# EAGLE library part ATSAM3U2E (library LITTLEBITS140915)
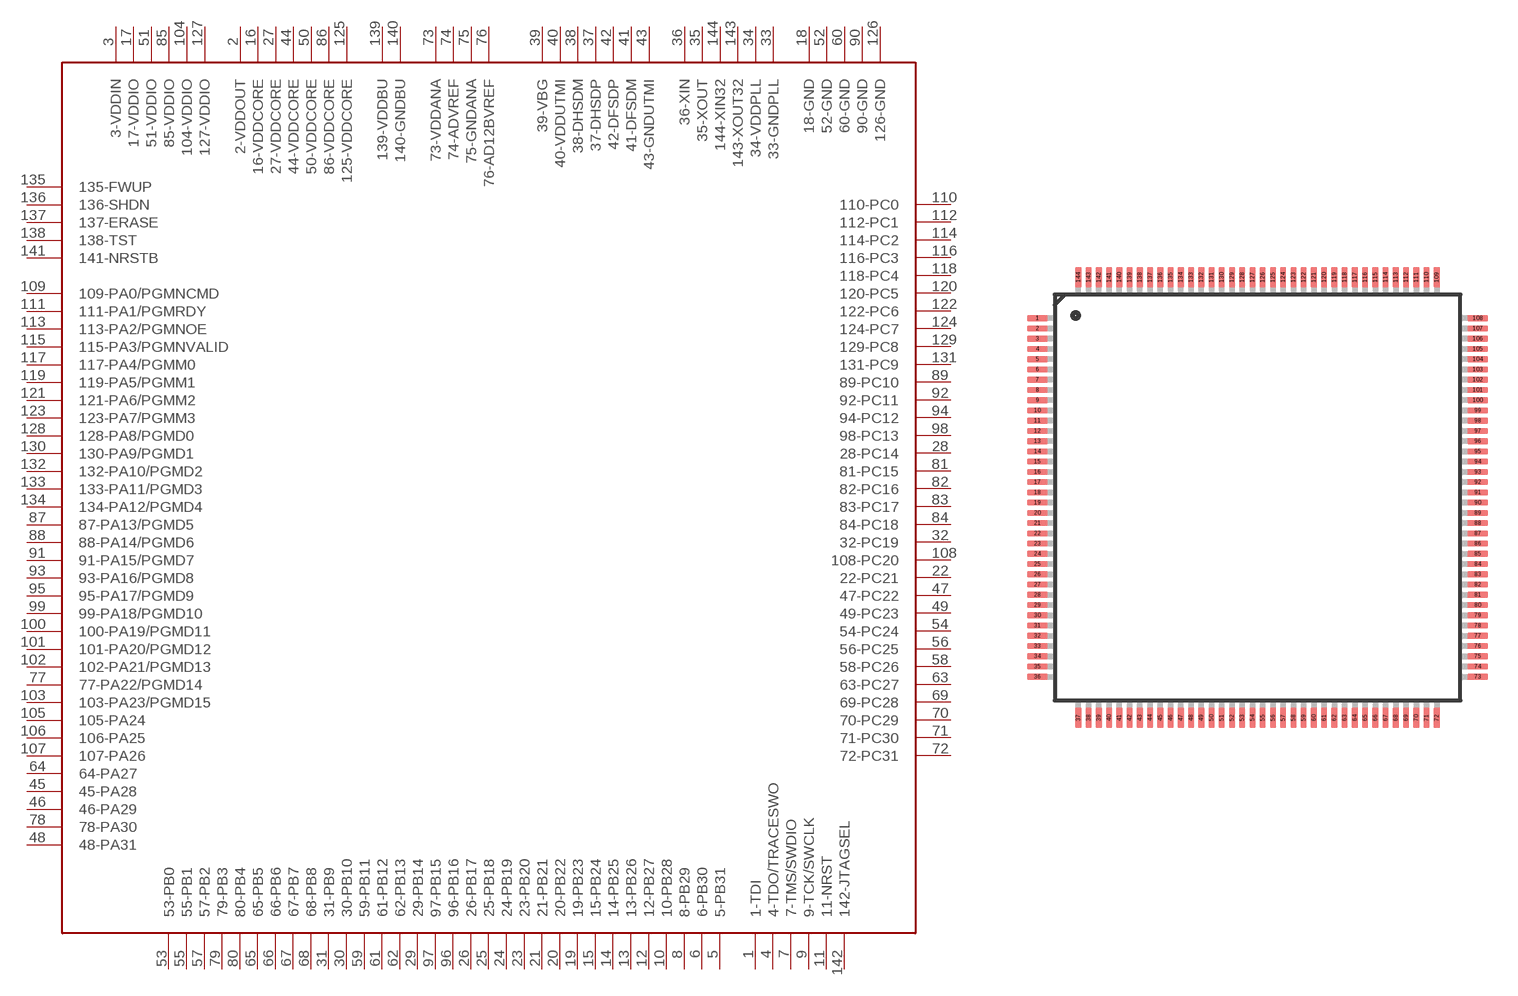
[diagram p62: symbol with the pads of LQFP144; footprint LQFP144]

Designator prefix -

## ATSAM3U2E  [LQFP144]
1  1-TDI
2  2-VDDOUT
3  3-VDDIN
4  4-TDO/TRACESWO
5  5-PB31
6  6-PB30
7  7-TMS/SWDIO
8  8-PB29
9  9-TCK/SWCLK
10  10-PB28
11  11-NRST
12  12-PB27
13  13-PB26
14  14-PB25
15  15-PB24
16  16-VDDCORE
17  17-VDDIO
18  18-GND
19  19-PB23
20  20-PB22
21  21-PB21
22  22-PC21
23  23-PB20
24  24-PB19
25  25-PB18
26  26-PB17
27  27-VDDCORE
28  28-PC14
29  29-PB14
30  30-PB10
31  31-PB9
32  32-PC19
33  33-GNDPLL
34  34-VDDPLL
35  35-XOUT
36  36-XIN
37  37-DHSDP
38  38-DHSDM
39  39-VBG
40  40-VDDUTMI
41  41-DFSDM
42  42-DFSDP
43  43-GNDUTMI
44  44-VDDCORE
45  45-PA28
46  46-PA29
47  47-PC22
48  48-PA31
49  49-PC23
50  50-VDDCORE
51  51-VDDIO
52  52-GND
53  53-PB0
54  54-PC24
55  55-PB1
56  56-PC25
57  57-PB2
58  58-PC26
59  59-PB11
60  60-GND
61  61-PB12
62  62-PB13
63  63-PC27
64  64-PA27
65  65-PB5
66  66-PB6
67  67-PB7
68  68-PB8
69  69-PC28
70  70-PC29
71  71-PC30
72  72-PC31
73  73-VDDANA
74  74-ADVREF
75  75-GNDANA
76  76-AD12BVREF
77  77-PA22/PGMD14
78  78-PA30
79  79-PB3
80  80-PB4
81  81-PC15
82  82-PC16
83  83-PC17
84  84-PC18
85  85-VDDIO
86  86-VDDCORE
87  87-PA13/PGMD5
88  88-PA14/PGMD6
89  89-PC10
90  90-GND
91  91-PA15/PGMD7
92  92-PC11
93  93-PA16/PGMD8
94  94-PC12
95  95-PA17/PGMD9
96  96-PB16
97  97-PB15
98  98-PC13
99  99-PA18/PGMD10
100  100-PA19/PGMD11
101  101-PA20/PGMD12
102  102-PA21/PGMD13
103  103-PA23/PGMD15
104  104-VDDIO
105  105-PA24
106  106-PA25
107  107-PA26
108  108-PC20
109  109-PA0/PGMNCMD
110  110-PC0
111  111-PA1/PGMRDY
112  112-PC1
113  113-PA2/PGMNOE
114  114-PC2
115  115-PA3/PGMNVALID
116  116-PC3
117  117-PA4/PGMM0
118  118-PC4
119  119-PA5/PGMM1
120  120-PC5
121  121-PA6/PGMM2
122  122-PC6
123  123-PA7/PGMM3
124  124-PC7
125  125-VDDCORE
126  126-GND
127  127-VDDIO
128  128-PA8/PGMD0
129  129-PC8
130  130-PA9/PGMD1
131  131-PC9
132  132-PA10/PGMD2
133  133-PA11/PGMD3
134  134-PA12/PGMD4
135  135-FWUP
136  136-SHDN
137  137-ERASE
138  138-TST
139  139-VDDBU
140  140-GNDBU
141  141-NRSTB
142  142-JTAGSEL
143  143-XOUT32
144  144-XIN32

## Footprint LQFP144 (pad centres in mm)
smd 1 x 0.3: 1 -10.75,8.75; 2 -10.75,8.25; 3 -10.75,7.75; 4 -10.75,7.25; 5 -10.75,6.75; 6 -10.75,6.25; 7 -10.75,5.75; 8 -10.75,5.25; 9 -10.75,4.75; 10 -10.75,4.25; 11 -10.75,3.75; 12 -10.75,3.25; 13 -10.75,2.75; 14 -10.75,2.25; 15 -10.75,1.75; 16 -10.75,1.25; 17 -10.75,0.75; 18 -10.75,0.25; 19 -10.75,-0.25; 20 -10.75,-0.75; 21 -10.75,-1.25; 22 -10.75,-1.75; 23 -10.75,-2.25; 24 -10.75,-2.75; 25 -10.75,-3.25; 26 -10.75,-3.75; 27 -10.75,-4.25; 28 -10.75,-4.75; 29 -10.75,-5.25; 30 -10.75,-5.75; 31 -10.75,-6.25; 32 -10.75,-6.75; 33 -10.75,-7.25; 34 -10.75,-7.75; 35 -10.75,-8.25; 36 -10.75,-8.75; 73 10.75,-8.75; 74 10.75,-8.25; 75 10.75,-7.75; 76 10.75,-7.25; 77 10.75,-6.75; 78 10.75,-6.25; 79 10.75,-5.75; 80 10.75,-5.25; 81 10.75,-4.75; 82 10.75,-4.25; 83 10.75,-3.75; 84 10.75,-3.25; 85 10.75,-2.75; 86 10.75,-2.25; 87 10.75,-1.75; 88 10.75,-1.25; 89 10.75,-0.75; 90 10.75,-0.25; 91 10.75,0.25; 92 10.75,0.75; 93 10.75,1.25; 94 10.75,1.75; 95 10.75,2.25; 96 10.75,2.75; 97 10.75,3.25; 98 10.75,3.75; 99 10.75,4.25; 100 10.75,4.75; 101 10.75,5.25; 102 10.75,5.75; 103 10.75,6.25; 104 10.75,6.75; 105 10.75,7.25; 106 10.75,7.75; 107 10.75,8.25; 108 10.75,8.75
smd 0.3 x 1: 37 -8.75,-10.75; 38 -8.25,-10.75; 39 -7.75,-10.75; 40 -7.25,-10.75; 41 -6.75,-10.75; 42 -6.25,-10.75; 43 -5.75,-10.75; 44 -5.25,-10.75; 45 -4.75,-10.75; 46 -4.25,-10.75; 47 -3.75,-10.75; 48 -3.25,-10.75; 49 -2.75,-10.75; 50 -2.25,-10.75; 51 -1.75,-10.75; 52 -1.25,-10.75; 53 -0.75,-10.75; 54 -0.25,-10.75; 55 0.25,-10.75; 56 0.75,-10.75; 57 1.25,-10.75; 58 1.75,-10.75; 59 2.25,-10.75; 60 2.75,-10.75; 61 3.25,-10.75; 62 3.75,-10.75; 63 4.25,-10.75; 64 4.75,-10.75; 65 5.25,-10.75; 66 5.75,-10.75; 67 6.25,-10.75; 68 6.75,-10.75; 69 7.25,-10.75; 70 7.75,-10.75; 71 8.25,-10.75; 72 8.75,-10.75; 109 8.75,10.75; 110 8.25,10.75; 111 7.75,10.75; 112 7.25,10.75; 113 6.75,10.75; 114 6.25,10.75; 115 5.75,10.75; 116 5.25,10.75; 117 4.75,10.75; 118 4.25,10.75; 119 3.75,10.75; 120 3.25,10.75; 121 2.75,10.75; 122 2.25,10.75; 123 1.75,10.75; 124 1.25,10.75; 125 0.75,10.75; 126 0.25,10.75; 127 -0.25,10.75; 128 -0.75,10.75; 129 -1.25,10.75; 130 -1.75,10.75; 131 -2.25,10.75; 132 -2.75,10.75; 133 -3.25,10.75; 134 -3.75,10.75; 135 -4.25,10.75; 136 -4.75,10.75; 137 -5.25,10.75; 138 -5.75,10.75; 139 -6.25,10.75; 140 -6.75,10.75; 141 -7.25,10.75; 142 -7.75,10.75; 143 -8.25,10.75; 144 -8.75,10.75